# Altium schematic symbol library SPB_Connectors.SchLib: 60 symbols
Pins are listed as number, name and electrical type; pins without a type are passive.

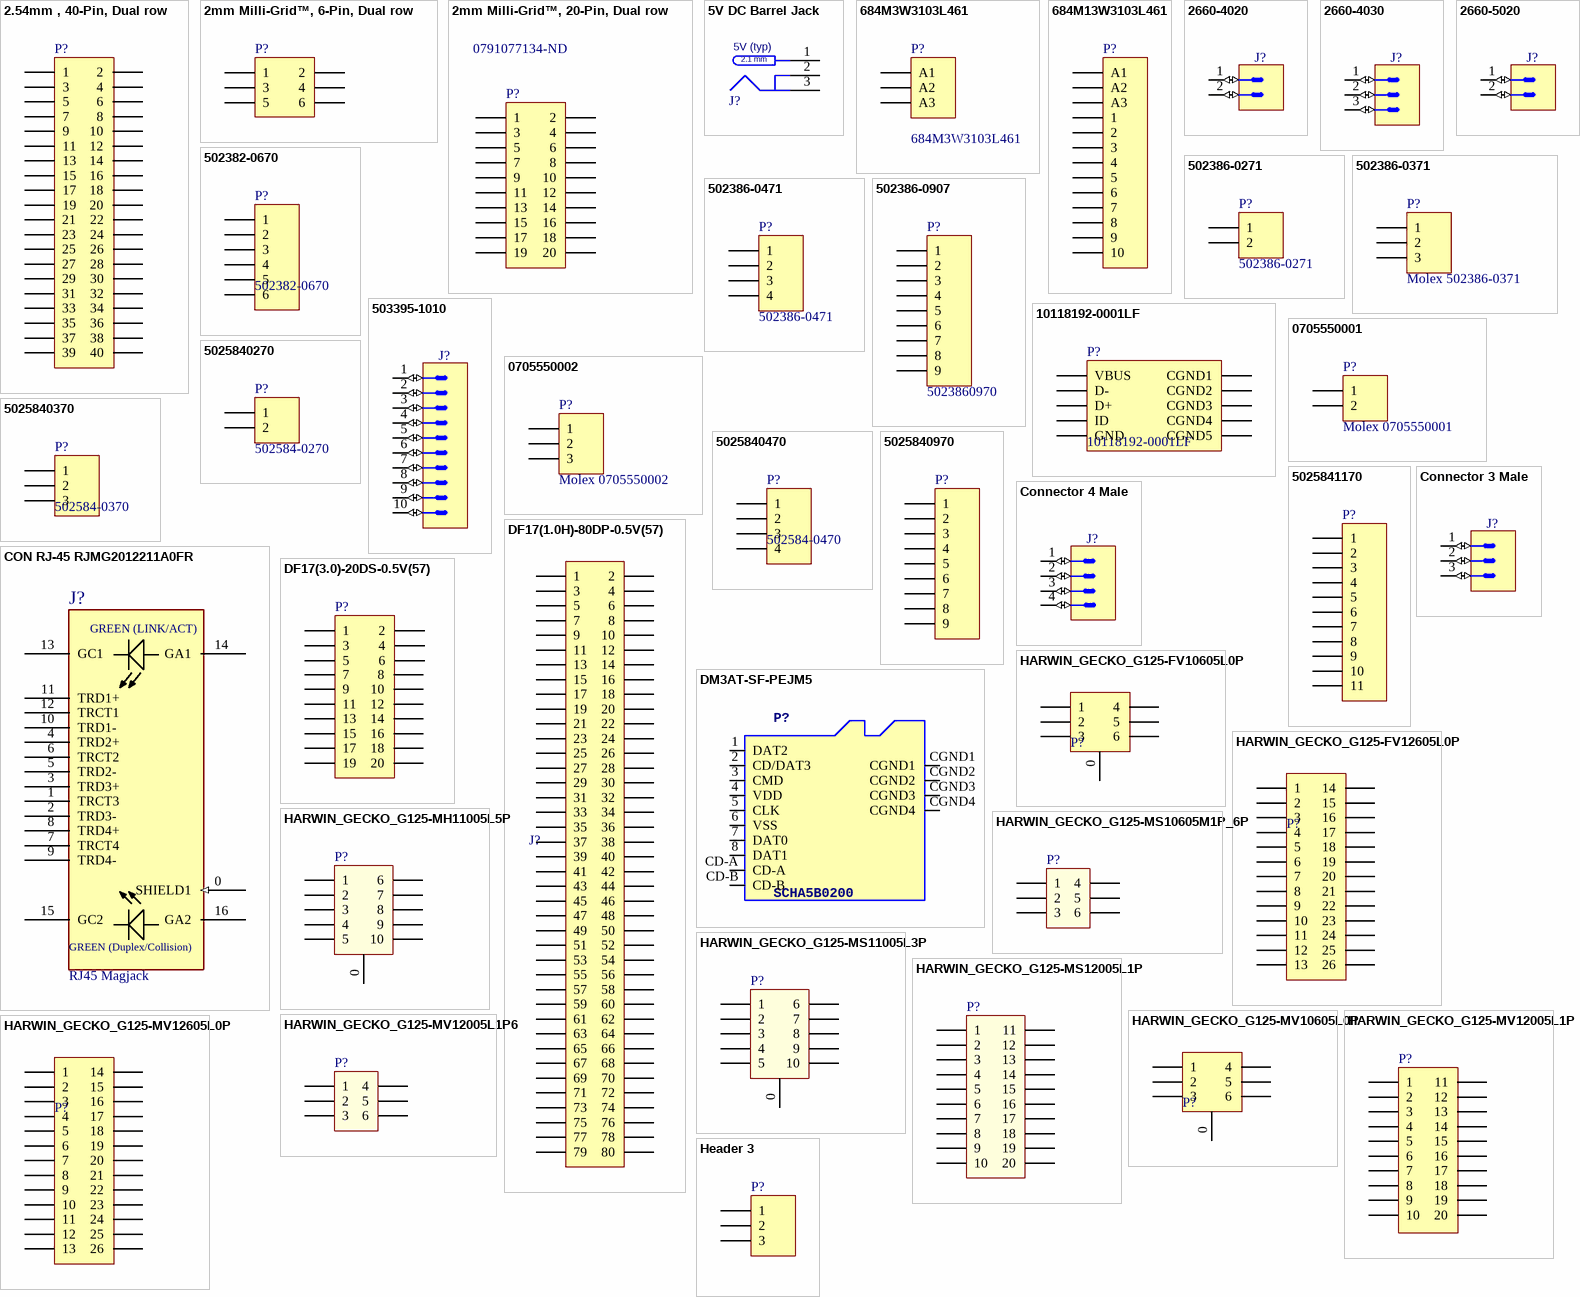
[diagram p0: symbols 2.54mm , 40-Pin, Dual row to Header 3]

## 2.54mm , 40-Pin, Dual row
designator P?
Headers & Wire Housings 20+20 DIL VERTICAL SOCKET TIN; Manufacturer Part Number: M20-7832046; Mouser part #: 855-M20-7832046
footprint Socket_20x2_2.54mm (Headers & Wire Housings 20+20 DIL VERTICAL SOCKET TIN)
pins: 1, 2, 3, 4, 5, 6, 7, 8, 9, 10, 11, 12, 13, 14, 15, 16, 17, 18, 19, 20, 21, 22, 23, 24, 25, 26, 27, 28, 29, 30, 31, 32, 33, 34, 35, 36, 37, 38, 39, 40

## 2mm Milli-Grid™, 6-Pin, Dual row
designator P?
Connector Header Through Hole 6 position 0.079" (2.00mm); Manufacturer Part Number: 0791077134-ND; DigiKey Part Number: 1849-1000-ND
footprint Header2mm6
pins: 1, 2, 3, 4, 5, 6

## 2mm Milli-Grid™, 20-Pin, Dual row
designator P?  Supplier Part Number 3: 0791077134-ND
2mm pitch Milli-Grid™, 20-Pin, Dual row; Supplier 1: Digi-Key; Supplier 2: Digi-Key; Supplier 3: Digi-Key; Supplier 4: Digi-Key; Supplier Part Number 1: WM18681-ND; Supplier Part Number 2: WM14795-ND; Supplier Part Number 4: WM14796-ND
footprint 791077 (2mm pitch 20pin)
pins: 1, 2, 3, 4, 5, 6, 7, 8, 9, 10, 11, 12, 13, 14, 15, 16, 17, 18, 19, 20

## 5V DC Barrel Jack
designator J?, comment Barrel Connector  (value not drawn)
CONN PWR JACK 2.1X5.5MM HIGH CUR; Manufacturer Part Number: PJ-002AH; Description_: CONN PWR JACK 2.5X5.5MM HIGH CUR; Digi-Key Part Number: CP-002AH-ND
footprint CUI_PJ002AH (Connector, Power Jack, 2.1 mm x 5.1 mm, 24 V, 5 A, Right Angle, TH)
pins: 1, 2, 3
text: 5V (typ); 2.1 mm

## 684M3W3103L461
designator P?
D-Sub Mixed Contact Connectors STD POWER-D 3W3 40A R/A MALE; Manufacturer Part Number: 684M3W3103L461; Mouser Part #: 636-684M3W3103L461
pins: 1 A1, 2 A2, 3 A3

## 684M13W3103L461
designator P?
D-Sub Mixed Contact Connectors STD POWER-D 13W3 40A R/A MALE; Manufacturer Part Number: 684M13W3103L461; Mouser Part #: 636-684M13W3103L461
pins: 1, 2, 3, 4, 5, 6, 7, 8, 9, 10, A1, A2, A3

## 2660-4020
designator J?
Molex 2 Positions Header Connector 0.156" (3.96mm) Through Hole Tin; Manufacturer Part Number: 26-60-4020; Digi-Key Part Number: WM4620-ND; Mouser Part #: 538-26-60-4020
footprint MOLEX_26-60-4020 (3.96mm (.156") Pitch KK® Solid Header, Vertical, Friction Lock, 2 Circuits, Tin (Sn) Plating)
pins: 1 (io), 2 (io)
1 alternate drawing of the same symbol

## 2660-4030
designator J?
Molex 3 Positions Header Connector 0.156" (3.96mm) Through Hole Tin; Manufacturer Part Number: 0026604030; Digi-Key Part Number: WM4621-ND; Mouser Part #: 538-26-60-4030
footprint MOLEX_26-60-4030 (3.96mm (.156") Pitch KK® Solid Header, Vertical, Friction Lock, 3 Circuits, Tin (Sn) Plating)
pins: 1 (io), 2 (io), 3 (io)
1 alternate drawing of the same symbol

## 2660-5020
designator J?, comment 26-60-5020  (value not drawn)
Molex 2 Positions Header Connector 0.156" (3.96mm) Through Hole, Right Angle, Tin; Manufacturer Part Number: 26-60-5020; Digi-Key Part Number: WM4640-ND; Mouser Part #: 538-26-60-5020
pins: 1 (io), 2 (io)
1 alternate drawing of the same symbol

## 502382-0670
designator P?
4-Pin 1.25 Molex Clik-Mate Connector; Manufacturer Part Number: 502382-0670; Mouser Part #: 538-502382-0670
footprint 502386-0607 (1.25 Molex Clik-Mate Connector)
pins: 1, 2, 3, 4, 5, 6

## 502386-0271
designator P?
2-Pin 1.25mm Molex Clik-Mate Connector; Supplier 1: Mouser; Supplier 2: Digi-Key; Supplier Part Number 1: Anonymous Daily Limit Reached; Supplier Part Number 2: 5023860271-ND
footprint 502386-0207 (1.25 Molex Clik-Mate Connector)
pins: 1, 2

## 502386-0371
designator P?, comment Molex 502386-0371
3-Pin 1.25 Molex Clik-Mate Connector; Supplier 1: Digi-Key; Supplier Part Number 1: 5023860371-ND
footprint 502386-0307 (1.25 Molex Clik-Mate Connector)
pins: 1, 2, 3

## 502386-0471
designator P?
4-Pin 1.25 Molex Clik-Mate Connector; Supplier 1: Digi-Key; Supplier Part Number 1: 5023860471-ND
footprint 502386-0407 (1.25 Molex Clik-Mate Connector)
pins: 1, 2, 3, 4

## 502386-0907
designator P?, comment 5023860970
9 Position Receptacle Connector 0.049" (1.25mm) Surface Mount, Right Angle; Mouser Part #: 538-502386-0970; Manufacturer Part Number: 5023860970; Digi-Key Part Number: WM4952CT-ND
signal-integrity model Connector
footprint 502386-0907 (Headers & Wire Housings CLIKMATE PCB RECPT 9P VT TIN BEIGE)
pins: 1, 2, 3, 4, 5, 6, 7, 8, 9

## 503395-1010
designator J?
Headers & Wire Housings 1.5 W/B SGL SMT BT M Entry 10P ETPBeige; Manufacturer Part Number: 5033951010; Digi-Key Part Number: WM10608CT-ND; Mouser Part #: 538-503395-1010
pins: 1 (io), 2 (io), 3 (io), 4 (io), 5 (io), 6 (io), 7 (io), 8 (io), 9 (io), 10 (io)
1 alternate drawing of the same symbol

## 10118192-0001LF
designator P?
USB Connectors 5P MICRO USB TYPE B RECEPTACLE; Digi-Key Part Number: 609-4613-1-ND; Manufacturer Part Number: 10118192-0001LF; Mouser Part #: 649-10118192-0001LF
footprint 10118192-0001LF(MICRO-USB-B-AMPHENOL-FCI)
pins: CGND1, CGND2, CGND3, CGND4, CGND5, D+, D-, GND, ID, VBUS

## 0705550001
designator P?, comment Molex 0705550001
2 Positions Header Connector 0.100" (2.54mm) Through Hole, Right Angle Tin; Manufacturer Part Number: 0705550002; Digi-Key Part Number: WM4164-ND
footprint MOLEX70555-2
pins: 1, 2

## 0705550002
designator P?, comment Molex 0705550002
3 Positions Header Connector 0.100" (2.54mm) Through Hole, Right Angle Tin; Digi-Key Part Number: WM4165-ND; Manufacturer Part Number: 0705550002
footprint MOLEX70555-3
pins: 1, 2, 3

## 5025840270
designator P?, comment 502584-0270
Molex 2 Position Receptacle Connector 0.059" (1.50mm) Surface Mount Tin; Manufacturer Part Number: 5025840270; Digi-Key Part Number: WM9811CT-ND; Mouser Part #: 538-502584-0270
footprint 5025840270 (Molex  2 Position Receptacle Connector 0.059" (1.50mm) Surface Mount Tin)
pins: 1, 2

## 5025840370
designator P?, comment 502584-0370
Molex  3 Position Receptacle Connector 0.059" (1.50mm) Surface Mount Tin; Manufacturer Part Number: 5025840370; Digi-Key Part Number: WM14461CT-ND; Mouser Part #: 538-502584-0370
footprint 5025840370 (Molex 3 Position Receptacle Connector 0.059" (1.50mm) Surface Mount Tin)
pins: 1, 2, 3

## 5025840470
designator P?, comment 502584-0470
Molex 4 Position Receptacle Connector 0.059" (1.50mm) Surface Mount Tin; Manufacturer Part Number: 5025840470; Digi-Key Part Number: WM10615CT-ND; Mouser Part #: 538-502584-0470
footprint 5025840470 (Molex 4 Position Receptacle Connector 0.059" (1.50mm) Surface Mount Tin)
pins: 1, 2, 3, 4

## 5025840970
designator P?  (value not drawn)
9 Position Receptacle Connector 0.049" (1.25mm) Surface Mount, Right Angle; Mouser Part #: 538-502584-0970; Manufacturer Part Number: 5025840970; Digi-Key Part Number: 5025840970-ND
signal-integrity model Connector
footprint 502386-0907 (1.25 Molex Clik-Mate Connector)
pins: 1, 2, 3, 4, 5, 6, 7, 8, 9

## 5025841170
designator P?  (value not drawn)
11 Position Receptacle Connector  (1.5mm) Surface Mount; Mouser Part #: 538-502584-1170; Manufacturer Part Number: 5025841170; Digi-Key Part Number: WM26798CT-ND
signal-integrity model Connector
footprint 502584-1170 (Headers & Wire Housings CLIKMATE PCB RECPT 11P VT TIN BEIGE)
pins: 1, 2, 3, 4, 5, 6, 7, 8, 9, 10, 11

## CON RJ-45 RJMG2012211A0FR
designator J?, comment RJ45 Magjack
CON RJ-45 RJMG2012211A0FR; Manufacturer 1: Amphenol Commercial Products; Populated: Yes; Description_: CON MODULAR RJ45 MAGJACK TH R/A; Manufacturer Part Number 1: RJMG2012211A0FR; RoHS: RoHS Compliant; ComponentLink1URL: https://www.amphenolcanada.com/ProductSearch/Drawings/AC/RJMG2012211A0FR.PDF; ComponentLink1Description: Datasheet; Supplier 1: Digikey; Supplier Part Number 1: RJMG2012211A0FR-ND; Value: RJ45 Magjack
footprint CON_MODULAR_RJ45_TH_RA_RJMG2012211A0FR (CONN MAGJACK 1PORT 1000 BASE-T)
pins: 0 SHIELD1 (in), 1 TRCT3, 2 TRD3-, 3 TRD3+, 4 TRD2+, 5 TRD2-, 6 TRCT2, 7 TRCT4, 8 TRD4+, 9 TRD4-, 10 TRD1-, 11 TRD1+, 12 TRCT1, 13 GC1, 14 GA1, 15 GC2, 16 GA2
text: GREEN (LINK/ACT); GREEN (Duplex/Collision)

## Connector 3 Male
designator J?
Connector 3 Male
footprint MHDR1X3 (Connector; Header; 3 Position)
pins: 1 (io), 2 (io), 3 (io)
1 alternate drawing of the same symbol

## Connector 4 Male
designator J?
Connector 4 Male
footprint HDR1X4 (Connector; Header; 4 Position)
pins: 1 (io), 2 (io), 3 (io), 4 (io)
1 alternate drawing of the same symbol

## DF17(1.0H)-80DP-0.5V(57)
designator J?  (value not drawn)
CONN HEADER 80POS .5MM DUAL; Manufacturer Part Number: DF17(1.0H)-80DP-0.5V(57); Digi-Key Part Number: DF17(1.0H)-80DP-0.5V(57)-ND; Mouser Part #: 798-DF1710H80DP05V57
footprint CON-DF17-80M (80 Position Connector Header, Outer Shroud Contacts Surface Mount Gold)
pins: 1, 2, 3, 4, 5, 6, 7, 8, 9, 10, 11, 12, 13, 14, 15, 16, 17, 18, 19, 20, 21, 22, 23, 24, 25, 26, 27, 28, 29, 30, 31, 32, 33, 34, 35, 36, 37, 38, 39, 40, 41, 42, 43, 44, 45, 46, 47, 48, 49, 50, 51, 52, 53, 54, 55, 56, 57, 58, 59, 60, 61, 62, 63, 64, 65, 66, 67, 68, 69, 70, 71, 72, 73, 74, 75, 76, 77, 78, 79, 80

## DF17(3.0)-20DS-0.5V(57)
designator P?
20 Position Connector Receptacle, Center Strip Contacts Surface Mount Gold; Manufacturer Part Number: DF17(3.0)-20DS-0.5V(57); DigiKey Part Number: H11107CT-ND
footprint DF-17 (20 Position Connector Receptacle, Center Strip Contacts Surface Mount Gold)
pins: 1, 2, 3, 4, 5, 6, 7, 8, 9, 10, 11, 12, 13, 14, 15, 16, 17, 18, 19, 20

## DM3AT-SF-PEJM5
designator P?, comment SCHA5B0200
Memory Card Connectors R/A SMT MICROSD CON PUSH-PUSH TOP BRDMNT; Manufacturer Part Number: DM3AT-SF-PEJM5; Mouser Part #: 798-DM3AT-SF-PEJM5; Digi-Key Part Number: HR1964CT-ND
footprint DM3AT-SF-PEJM5
pins: 1 DAT2, 2 CD/DAT3, 3 CMD, 4 VDD, 5 CLK, 6 VSS, 7 DAT0, 8 DAT1, CD-A, CD-B, CGND1, CGND2, CGND3, CGND4

## HARWIN_GECKO_G125-FV10605L0P
designator P?, comment G125-FV10605L0P  (value not drawn)
3+3 Pos. Female DIL Vertical Throughboard Conn. for Latches; Manufacturer Part Number: G125-FV10605L0P; Supplier 1: Digi-Key; Supplier 2: Mouser; Supplier Part Number 1: G125-FV10605L0P; Supplier Part Number 2: 855-G125-FV10605L0P
footprint HARWIN_GECKO_6P_FM_PCB_THROUGH (HARWIN_GECKO_MALE Through Hole 6 position 0.049" (1.25mm))
pins: 0, 1, 2, 3, 4, 5, 6

## HARWIN_GECKO_G125-FV12605L0P
designator P?, comment G125-FV12605L0P  (value not drawn)
13+13 Pos. Female DIL Vertical Throughboard Conn. for Latches; Manufacturer Part Number: G125-FV12605L0P; Supplier 1: Digi-Key; Supplier 2: Mouser; Supplier Part Number 1: 952-2441-ND; Supplier Part Number 2: 855-G125-FV12605L0P
footprint HARWIN_GECKO_26P_FM_PCB_THROUGH (HARWIN_GECKO_MALE Through Hole 26 position 0.049" (1.25mm))
pins: 1, 2, 3, 4, 5, 6, 7, 8, 9, 10, 11, 12, 13, 14, 15, 16, 17, 18, 19, 20, 21, 22, 23, 24, 25, 26

## HARWIN_GECKO_G125-MH11005L5P
designator P?, comment G125-MH11005L5P  (value not drawn)
5+5 Pos. Male DIL Horizontal Throughboard Conn. no Latches; Manufacturer Part Number: G125-MH11005L5P; Supplier 1: Digi-Key; Supplier 2: Mouser; Supplier Part Number 1: 952-2712-ND; Supplier Part Number 2: 855-G125-MH11005L5P
footprint HARWIN_GECKO_10P_PCB_RA_WL (HARWIN_GECKO_MALE Through Hole without latches 10 position 0.049" (1.25mm))
pins: 0, 1, 2, 3, 4, 5, 6, 7, 8, 9, 10

## HARWIN_GECKO_G125-MS10605M1P_6P
designator P?, comment G125-MS10605M1P  (value not drawn)
3+3 Pos. Male DIL Vertical SMT Conn. Screw-Lok; Manufacturer Part Number: G125-MS10605M1P
footprint HARWIN_GECKO_6P_PCB_SMT (HARWIN_GECKO_MALE SMT 6 position 0.049" (1.25mm))
pins: 1, 2, 3, 4, 5, 6

## HARWIN_GECKO_G125-MS11005L3P
designator P?, comment G125-MS11005L3P  (value not drawn)
5+5 Pos. Male DIL Vertical SMT Conn. Latches 1.25mm Pitch High-Reliability Connector - Gecko with Latches; Manufacturer Part Number: G125-MS11005L3P
footprint HARWIN_GECKO_10P_PCB_SMT (HARWIN_GECKO_MALE SMT 10 position 0.049" (1.25mm))
pins: 0, 1, 2, 3, 4, 5, 6, 7, 8, 9, 10

## HARWIN_GECKO_G125-MS12005L1P
designator P?, comment G125-MS12005L1P  (value not drawn)
10+10 Pos. Male DIL Vertical SMT Conn. Latches; Manufacturer Part Number: G125-MS12005L1P
footprint HARWIN_GECKO_20P_PCB_SMT (HARWIN_GECKO_MALE SMT 20 position 0.049" (1.25mm))
pins: 1, 2, 3, 4, 5, 6, 7, 8, 9, 10, 11, 12, 13, 14, 15, 16, 17, 18, 19, 20

## HARWIN_GECKO_G125-MV10605L0P
designator P?, comment G125-MV10605L0P  (value not drawn)
3+3 Pos. Male DIL Vertical Throughboard Conn. no Latches; Manufacturer Part Number: G125-MV10605L0P; Supplier 1: Digi-Key; Supplier 2: Mouser; Supplier Part Number 1: 952-2545-ND; Supplier Part Number 2: 855-G125-MV10605L0P
footprint HARWIN_GECKO_6P_M_PCB_THROUGH (HARWIN_GECKO_MALE Through Hole 6 position 0.049" (1.25mm))
pins: 0, 1, 2, 3, 4, 5, 6

## HARWIN_GECKO_G125-MV12005L1P
designator P?
Connector Header Through Hole 20 position 0.049" (1.25mm); Manufacturer Part Number: G125-MV12005L1P
footprint HARWIN_GECKO_PCB_THROUGH (HARWIN_GECKO_MALE Through Hole 20 position 0.049" (1.25mm))
pins: 1, 2, 3, 4, 5, 6, 7, 8, 9, 10, 11, 12, 13, 14, 15, 16, 17, 18, 19, 20

## HARWIN_GECKO_G125-MV12005L1P6
designator P?
Connector Header Through Hole 6 position 0.049" (1.25mm); Manufacturer Part Number: G125-MH10605L1P; Supplier 1: Mouser; Supplier Part Number 1: 855-G125-MH10605L1R; Supplier 2: Digi-Key; Supplier Part Number 2: 952-2695-ND
footprint HARWIN_GECKO_6P_PCB_RA (HARWIN_GECKO_MALE Through Hole 6 position 0.049" (1.25mm))
pins: 1, 2, 3, 4, 5, 6

## HARWIN_GECKO_G125-MV12605L0P
designator P?, comment G125-MV12605L0P  (value not drawn)
13+13 Pos. male DIL Vertical Throughboard Conn. without latches; Manufacturer Part Number: G125-MV12605L0P; Supplier 1: Digi-Key; Supplier 2: Mouser; Supplier Part Number 1: 952-2456-ND; Supplier Part Number 2: 855-G125-MV12605L0P
footprint HARWIN_GECKO_26P_M_PCB_THROUGH (HARWIN_GECKO_MALE Through Hole 26 position 0.049" (1.25mm))
pins: 1, 2, 3, 4, 5, 6, 7, 8, 9, 10, 11, 12, 13, 14, 15, 16, 17, 18, 19, 20, 21, 22, 23, 24, 25, 26

## Header 3
designator P?
Header, 3-Pin; LatestRevisionDate: 17-Jul-2002; LatestRevisionNote: Re-released for DXP Platform.; Publisher: Altium Limited
footprint HDR1X3 (Connector; Header; 3 Position)
pins: 1, 2, 3

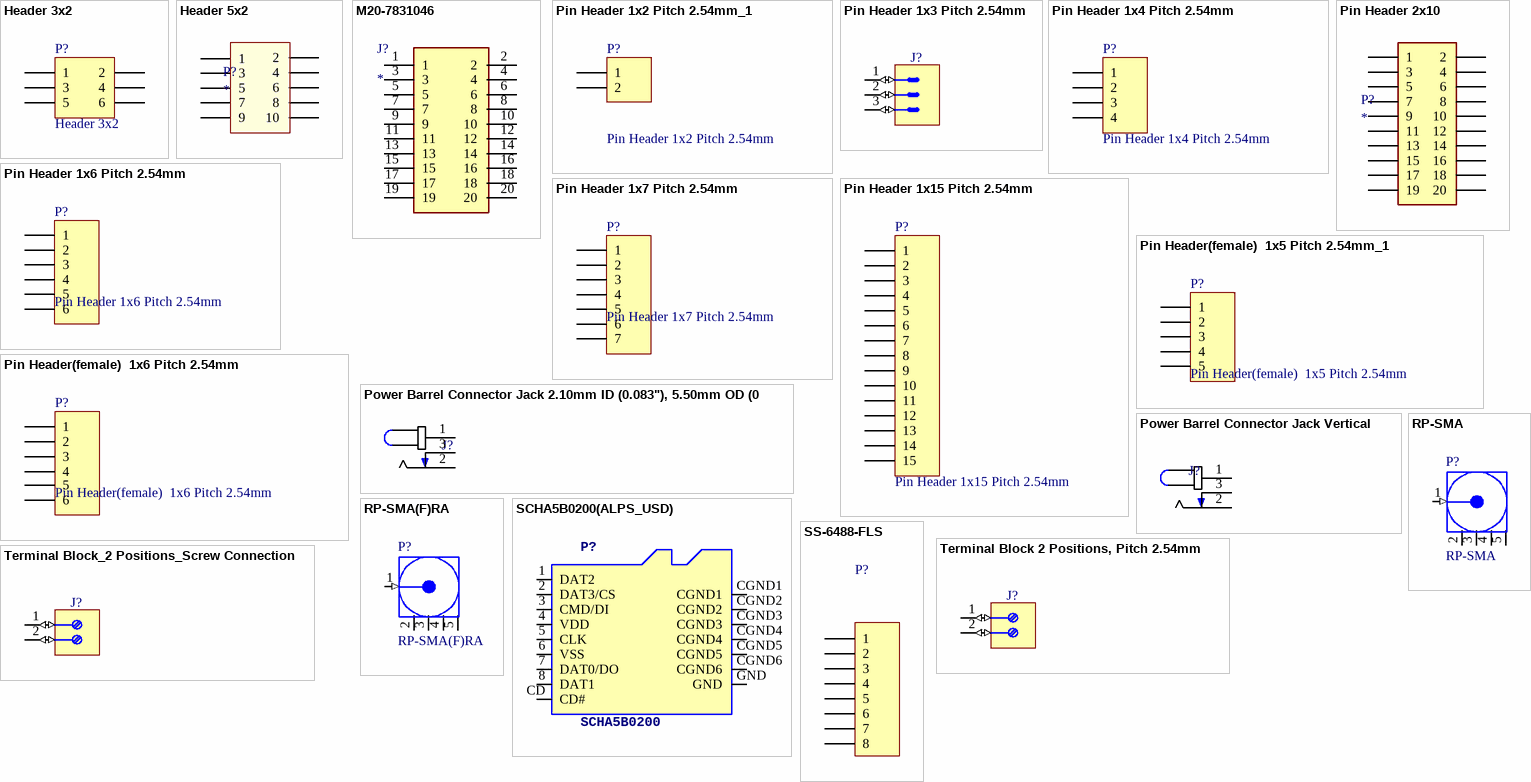
[diagram p1: symbols Header 3x2 to Terminal Block_2 Positions_Screw Connection]

## Header 3x2
designator P?
Header, 3-Pin, Dual row,2mm; LatestRevisionDate: 17-Jul-2002; LatestRevisionNote: Re-released for DXP Platform.; Publisher: Altium Limited
footprint HDR2X3 (Connector; Header; 3x2 Position)
signal-integrity model Connector
footprint Header2mm6
pins: 1, 2, 3, 4, 5, 6

## Header 5x2
designator P?
Header 5x2, DR,2mm pitch
footprint Header2mm10
pins: 1, 2, 3, 4, 5, 6, 7, 8, 9, 10

## M20-7831046
designator J?
Connector; Manufacturer Part Number: M20-7831046; Allied_Number: R1052763; Mouser Part #: 855-M20-7831046; RS Part Number: 6816842P
footprint SHDR20W80P254_2X10_2580X504X865P
pins: 1, 2, 3, 4, 5, 6, 7, 8, 9, 10, 11, 12, 13, 14, 15, 16, 17, 18, 19, 20

## Pin Header 1x2 Pitch 2.54mm_1
designator P?, comment Pin Header 1x2 Pitch 2.54mm
footprint Pin Header 1x2 TH Pitch 2.54mm
pins: 1, 2

## Pin Header 1x3 Pitch 2.54mm
designator J?
Pin Header 1x3 Pitch 2.54mm
footprint Pin Header 1x3 TH Pitch 2.54mm
pins: 1 (io), 2 (io), 3 (io)
1 alternate drawing of the same symbol

## Pin Header 1x4 Pitch 2.54mm
designator P?
signal-integrity model Connector
footprint Pin Header 1x4 TH Pitch 2.54mm
pins: 1, 2, 3, 4

## Pin Header 1x6 Pitch 2.54mm
designator P?
footprint Pin Header 1x6 TH Pitch 2.54mm
pins: 1, 2, 3, 4, 5, 6

## Pin Header 1x7 Pitch 2.54mm
designator P?
footprint Pin Header 1x7 TH Pitch 2.54mm
pins: 1, 2, 3, 4, 5, 6, 7

## Pin Header 1x15 Pitch 2.54mm
designator P?
signal-integrity model Connector
footprint Pin Header 1x15 TH Pitch 2.54mm
pins: 1, 2, 3, 4, 5, 6, 7, 8, 9, 10, 11, 12, 13, 14, 15

## Pin Header 2x10
designator P?
Pin Header 2x10, DR,2.54mm pitch; Manufacturer Part Number: 10-89-7201; Mouser Part #: 538-10-89-7201
footprint Pin Header 2x10 TH Pitch 2.54mm (Connector; Header; 10x2 Position)
pins: 1, 2, 3, 4, 5, 6, 7, 8, 9, 10, 11, 12, 13, 14, 15, 16, 17, 18, 19, 20

## Pin Header(female)  1x5 Pitch 2.54mm_1
designator P?, comment Pin Header(female)  1x5 Pitch 2.54mm
Pin Header(female) 1x5 Pitch 2.54mm
footprint Pin Header(female) 1x5 TH Pitch 2.54mm (Pin Header(female)  1x5 TH Pitch 2.54mm)
pins: 1, 2, 3, 4, 5

## Pin Header(female)  1x6 Pitch 2.54mm
designator P?
Pin Header(female) 1x6 Pitch 2.54mm
footprint Pin Header(female) 1x6 TH Pitch 2.54mm - duplicate (Pin Header(female)  1x6 TH Pitch 2.54mm)
pins: 1, 2, 3, 4, 5, 6

## Power Barrel Connector Jack 2.10mm ID (0.083"), 5.50mm OD (0.217") Surface Mount, Right Angle
designator J?, comment PJ-036AH-SMT-TR  (value not drawn)
Power Barrel Connector Jack 2.10mm ID (0.083"), 5.50mm OD (0.217") Surface Mount, Right Angle; Digikey Part Number: CP-036AHPJTR-ND; Manufacturer Part Number: PJ-036AH-SMT-TR
footprint PJ-102AH
footprint PJ-102B_POWER_CON
pins: 1, 2, 3

## Power Barrel Connector Jack Vertical
designator J?, comment 694106402002  (value not drawn)
Power Barrel Connector Jack 2.10mm ID (0.083"), 5.50mm OD (0.217") Through Hole; Digikey Part Number: 732-5931-ND; Manufacturer Part Number: 694106402002
footprint PJ-102 Vertical (Power Barrel Connector Jack 2.10mm ID (0.083"), 5.50mm OD (0.217") Through Hole)
pins: 1, 2, 3

## RP-SMA
designator P?
footprint RP-SMA edge (PCB edge mount SMA)
pins: 1 Signal (in) "Signal Pin", 2 GND (power), 3 GND (power), 4 GND (power), 5 GND (power)

## RP-SMA(F)RA
designator P?
RF Connectors / Coaxial Connectors SMA right angle PCB jack(f); Manufacturer Part Number: 85_SMA-50-0-144/111_YH; Mouser Part #: 455-85SMA500144111YH
footprint RP-SMA(RA) (Connector; RF Coaxial, MCX, Thru-Hole; 5 Position; Right-Angle)
pins: 1 Signal (in) "Signal Pin", 2 GND (power), 3 GND (power), 4 GND (power), 5 GND (power)

## SCHA5B0200(ALPS_USD)
designator P?, comment SCHA5B0200
footprint SCHA5B0200
pins: 1 DAT2, 2 DAT3/CS, 3 CMD/DI, 4 VDD, 5 CLK, 6 VSS, 7 DAT0/DO, 8 DAT1, CD CD#, CGND1, CGND2, CGND3, CGND4, CGND5, CGND6, GND

## SS-6488-FLS
designator P?
Ethernet Connectors RJ45 Connector; Manufacturer Part Number: SS-6488-FLS; Mouser Part #: 530-SS-6488-FLS
footprint SS-6488-FLS (RJ45 PCB Connector)
pins: 1, 2, 3, 4, 5, 6, 7, 8

## Terminal Block 2 Positions, Pitch 2.54mm
designator J?
Terminal 2 Positions, Screw Connection, Pitch 2.54mm
footprint Terminal 2.54mm
pins: 1 (io), 2 (io)

## Terminal Block_2 Positions_Screw Connection
designator J?
Terminal Block, 2 Positions, Screw Connection
footprint TERM_25.161.0253.0 (Terminal Block, Pitch 5mm, 2 Positions, Screw Connection)
pins: 1 (io), 2 (io)